# Altium schematic symbol library nlink.SchLib: 1 symbol
Pins are listed as number, name and electrical type; pins without a type are passive.

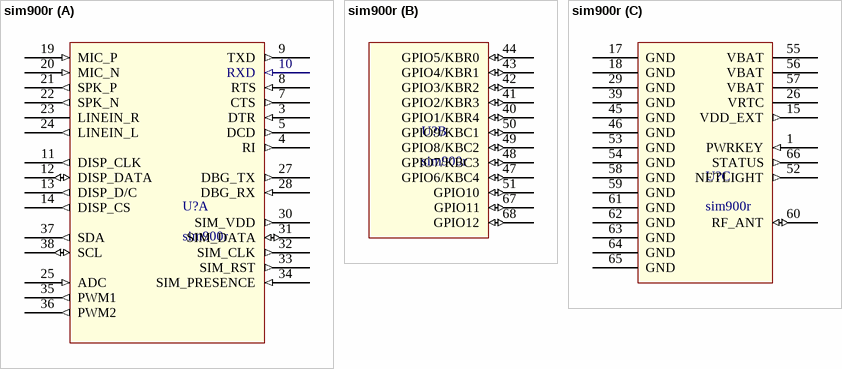
[diagram p0: symbol sim900r]

## sim900r
designator U?
footprint PCBSIM900r
part A pins: 3 DTR (in), 4 RI (out), 5 DCD (out), 7 CTS (out), 8 RTS (in), 9 TXD (out), 10 RXD (in), 11 DISP_CLK (out), 12 DISP_DATA (io), 13 DISP_D/C (out), 14 DISP_CS (out), 19 MIC_P (in), 20 MIC_N (in), 21 SPK_P (out), 22 SPK_N (out), 23 LINEIN_R, 24 LINEIN_L (out), 25 ADC (in), 27 DBG_TX (out), 28 DBG_RX (in), 30 SIM_VDD (out), 31 SIM_DATA (io), 32 SIM_CLK (out), 33 SIM_RST (out), 34 SIM_PRESENCE (in), 35 PWM1 (out), 36 PWM2 (out), 37 SDA (out), 38 SCL (io)
part B pins: 40 GPIO1/KBR4 (io), 41 GPIO2/KBR3 (io), 42 GPIO3/KBR2 (io), 43 GPIO4/KBR1 (io), 44 GPIO5/KBR0 (io), 47 GPIO6/KBC4 (io), 48 GPIO7/KBC3 (io), 49 GPIO8/KBC2 (io), 50 GPIO9/KBC1 (io), 51 GPIO10 (io), 67 GPIO11 (io), 68 GPIO12 (io)
part C pins: 1 PWRKEY (in), 15 VDD_EXT (out), 17 GND (power), 18 GND (power), 26 VRTC (power), 29 GND (power), 39 GND (power), 45 GND (power), 46 GND (power), 52 NETLIGHT (out), 53 GND (power), 54 GND (power), 55 VBAT (power), 56 VBAT (power), 57 VBAT (power), 58 GND (power), 59 GND (power), 60 RF_ANT (io), 61 GND (power), 62 GND (power), 63 GND (power), 64 GND (power), 65 GND (power), 66 STATUS (out)